# Altium schematic symbol library MICROCIRCUIT.SchLib: 5 symbols
Pins are listed as number, name and electrical type; pins without a type are passive.

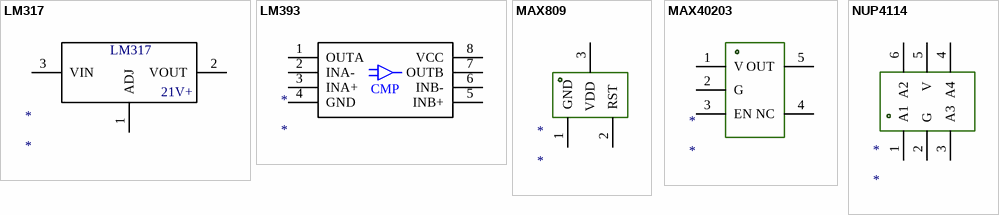
[diagram p0: symbols LM317 to NUP4114]

## LM317
designator *
LM317AEMP
footprint LM317
pins: 1 ADJ, 2 VOUT, 3 VIN
text: 21V+

## LM393
designator *
LM393ADR
footprint LM393ADR
pins: 1 OUTA, 2 INA-, 3 INA+, 4 GND, 5 INB+, 6 INB-, 7 OUTB, 8 VCC
text: CMP

## MAX809
designator *
MAX809R
footprint MAX809R
pins: 1 GND, 2 RST, 3 VDD

## MAX40203
designator *
MAX40203AUK+T
footprint MAX40203
pins: 1 V, 2 G, 3 EN, 4 NC, 5 OUT

## NUP4114
designator *
NUP4114HMR6T1G
footprint NUP4114
pins: 1 A1, 2 G, 3 A3, 4 A4, 5 V, 6 A2